# Altium footprint library Texas Instruments Footprints.PcbLib: 429 footprints (part 21 of 32)
Each footprint in its own frame and in the unit in brackets; x right, y up, seen from the top. Pads: shape width x height; smd on the part's side, far side on the other; paste and mask are expansions set on the pad; w line width, h text height; cw(c..) or ccw(c..) is an arc to the next point about the centre after c.
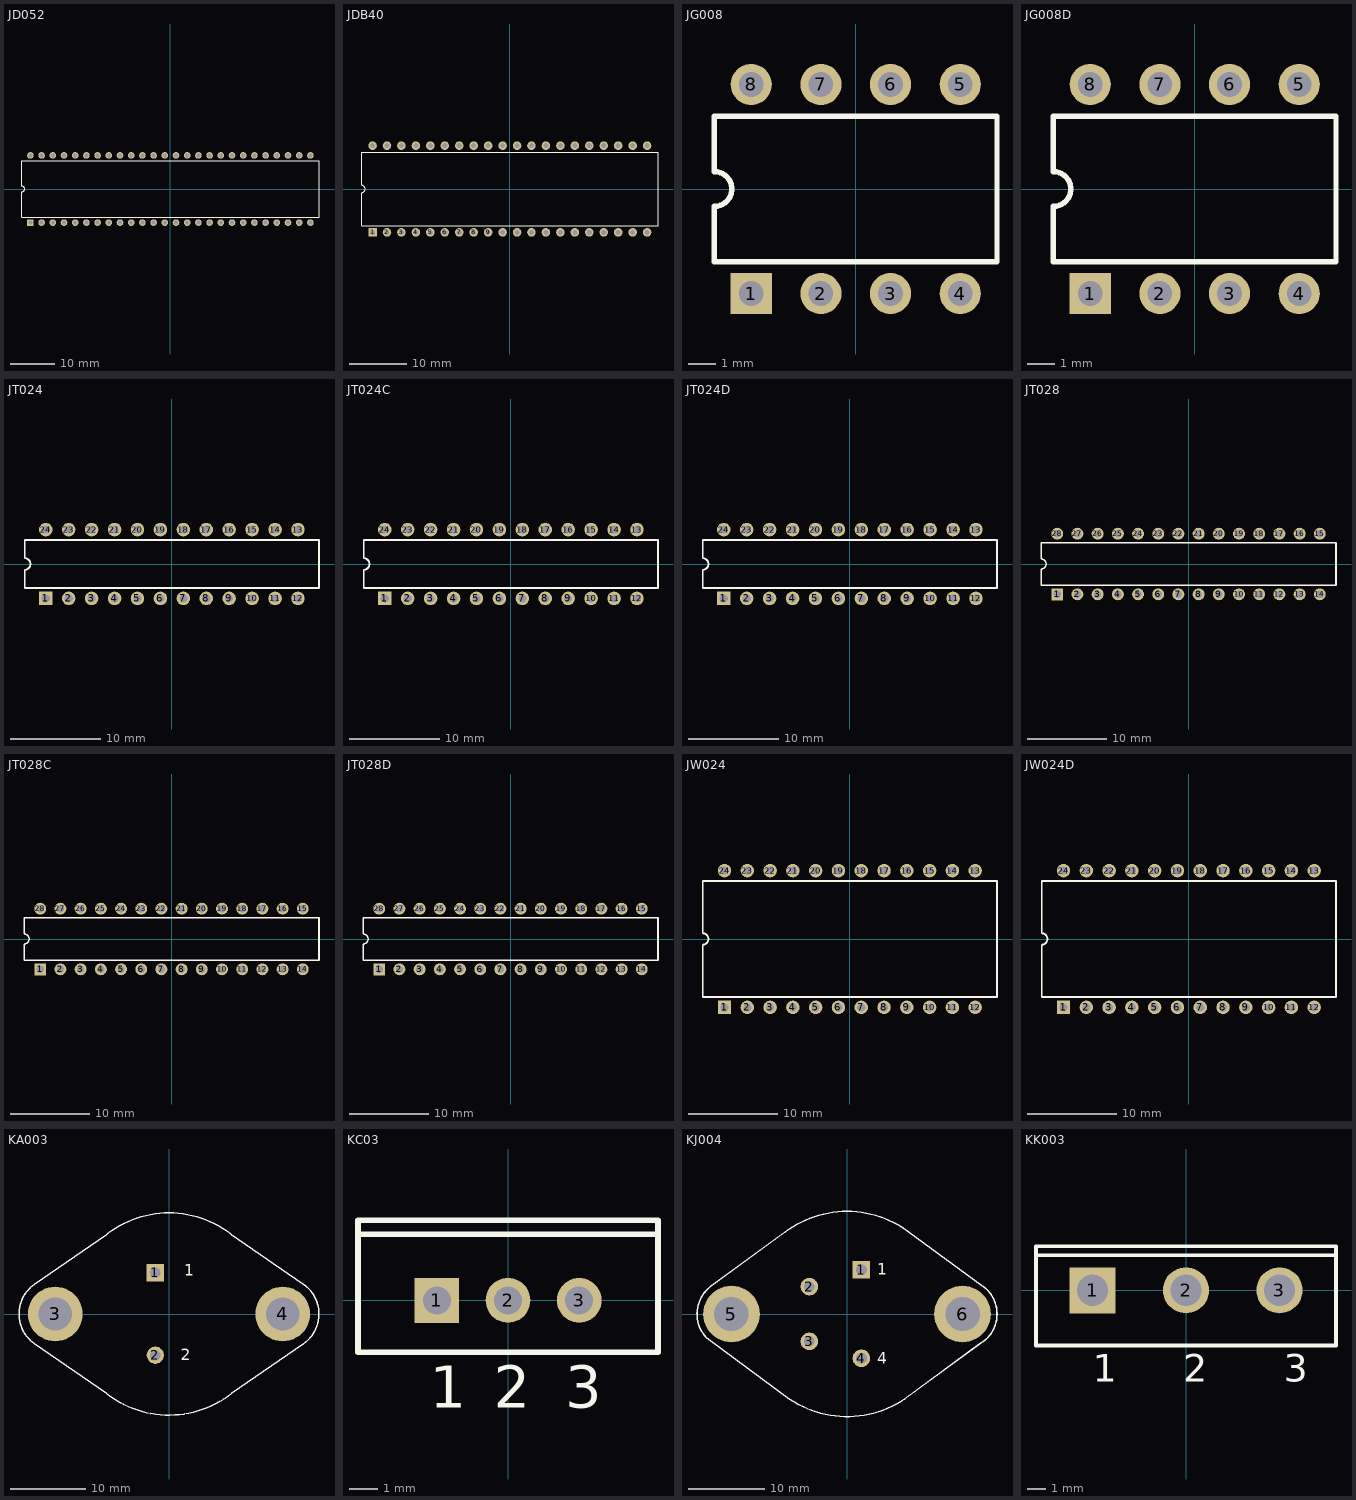
[diagram p20: the footprints below, top view; thin cyan lines are the x and y axes]

## JD052 [mm] "DIP; 52 Leads; Row Spacing 15.24 mm; Pitch 2.54 mm"
height 4.45
pads (52):
  rect 1.5x1.5 hole 0.9: 1(-31.75,-7.62)
  round 1.5 hole 0.9: 2(-29.21,-7.62) 3(-26.67,-7.62) 4(-24.13,-7.62) 5(-21.59,-7.62) 6(-19.05,-7.62) 7(-16.51,-7.62) 8(-13.97,-7.62) 9(-11.43,-7.62) 10(-8.89,-7.62) 11(-6.35,-7.62) 12(-3.81,-7.62) 13(-1.27,-7.62) 14(1.27,-7.62) 15(3.81,-7.62) 16(6.35,-7.62) 17(8.89,-7.62) 18(11.43,-7.62) 19(13.97,-7.62) 20(16.51,-7.62) 21(19.05,-7.62) 22(21.59,-7.62) 23(24.13,-7.62) 24(26.67,-7.62) 25(29.21,-7.62) 26(31.75,-7.62) 27(31.75,7.62) 28(29.21,7.62) 29(26.67,7.62) 30(24.13,7.62) 31(21.59,7.62) 32(19.05,7.62) 33(16.51,7.62) 34(13.97,7.62) 35(11.43,7.62) 36(8.89,7.62) 37(6.35,7.62) 38(3.81,7.62) 39(1.27,7.62) 40(-1.27,7.62) 41(-3.81,7.62) 42(-6.35,7.62) 43(-8.89,7.62) 44(-11.43,7.62) 45(-13.97,7.62) 46(-16.51,7.62) 47(-19.05,7.62) 48(-21.59,7.62) 49(-24.13,7.62) 50(-26.67,7.62) 51(-29.21,7.62) 52(-31.75,7.62)
Top Overlay:
  lines w0.2: -33.7,-6.45 -33.7,-0.635 ccw(c-33.7,0) -33.7,0.635 -33.7,6.45 33.7,6.45 33.7,-6.45 -33.7,-6.45

## JDB40 [mm] "DIP; 40 Leads; Row Spacing 15.24 mm; Pitch 2.54 mm"
height 4.7
pads (40):
  rect 1.5x1.5 hole 0.9: 1(-24.13,-7.62)
  round 1.5 hole 0.9: 2(-21.59,-7.62) 3(-19.05,-7.62) 4(-16.51,-7.62) 5(-13.97,-7.62) 6(-11.43,-7.62) 7(-8.89,-7.62) 8(-6.35,-7.62) 9(-3.81,-7.62) 10(-1.27,-7.62) 11(1.27,-7.62) 12(3.81,-7.62) 13(6.35,-7.62) 14(8.89,-7.62) 15(11.43,-7.62) 16(13.97,-7.62) 17(16.51,-7.62) 18(19.05,-7.62) 19(21.59,-7.62) 20(24.13,-7.62) 21(24.13,7.62) 22(21.59,7.62) 23(19.05,7.62) 24(16.51,7.62) 25(13.97,7.62) 26(11.43,7.62) 27(8.89,7.62) 28(6.35,7.62) 29(3.81,7.62) 30(1.27,7.62) 31(-1.27,7.62) 32(-3.81,7.62) 33(-6.35,7.62) 34(-8.89,7.62) 35(-11.43,7.62) 36(-13.97,7.62) 37(-16.51,7.62) 38(-19.05,7.62) 39(-21.59,7.62) 40(-24.13,7.62)
Top Overlay:
  lines w0.2: -26.05,-6.45 -26.05,-0.635 ccw(c-26.05,0) -26.05,0.635 -26.05,6.45 26.05,6.45 26.05,-6.45 -26.05,-6.45

## JG008 [mm] "DIP; 8 Leads; Row Spacing 7.62 mm; Pitch 2.54 mm"
height 5.08
pads (8):
  rect 1.5x1.5 hole 0.9: 1(-3.81,-3.81)
  round 1.5 hole 0.9: 2(-1.27,-3.81) 3(1.27,-3.81) 4(3.81,-3.81) 5(3.81,3.81) 6(1.27,3.81) 7(-1.27,3.81) 8(-3.81,3.81)
Top Overlay:
  lines w0.2: -5.15,-2.65 -5.15,-0.635 ccw(c-5.15,0) -5.15,0.635 -5.15,2.65 5.15,2.65 5.15,-2.65 -5.15,-2.65

## JG008D [mm] "DIP; 8 Leads; Row Spacing 7.62 mm; Pitch 2.54 mm"
height 5.08
pads (8):
  rect 1.5x1.5 hole 0.9: 1(-3.81,-3.81)
  round 1.5 hole 0.9: 2(-1.27,-3.81) 3(1.27,-3.81) 4(3.81,-3.81) 5(3.81,3.81) 6(1.27,3.81) 7(-1.27,3.81) 8(-3.81,3.81)
Top Overlay:
  lines w0.2: -5.15,-2.65 -5.15,-0.635 ccw(c-5.15,0) -5.15,0.635 -5.15,2.65 5.15,2.65 5.15,-2.65 -5.15,-2.65

## JT024 [mm] "DIP; 24 Leads; Row Spacing 7.62 mm; Pitch 2.54 mm"
height 5.08
pads (24):
  rect 1.5x1.5 hole 0.9: 1(-13.97,-3.81)
  round 1.5 hole 0.9: 2(-11.43,-3.81) 3(-8.89,-3.81) 4(-6.35,-3.81) 5(-3.81,-3.81) 6(-1.27,-3.81) 7(1.27,-3.81) 8(3.81,-3.81) 9(6.35,-3.81) 10(8.89,-3.81) 11(11.43,-3.81) 12(13.97,-3.81) 13(13.97,3.81) 14(11.43,3.81) 15(8.89,3.81) 16(6.35,3.81) 17(3.81,3.81) 18(1.27,3.81) 19(-1.27,3.81) 20(-3.81,3.81) 21(-6.35,3.81) 22(-8.89,3.81) 23(-11.43,3.81) 24(-13.97,3.81)
Top Overlay:
  lines w0.2: -16.3,-2.65 16.3,-2.65 16.3,2.65 -16.3,2.65 -16.3,0.635 cw(c-16.3,0) -16.3,-0.635 -16.3,-2.65

## JT024C [mm] "DIP; 24 Leads; Row Spacing 7.62 mm; Pitch 2.54 mm"
height 5.08
pads (24):
  rect 1.5x1.5 hole 0.9: 1(-13.97,-3.81)
  round 1.5 hole 0.9: 2(-11.43,-3.81) 3(-8.89,-3.81) 4(-6.35,-3.81) 5(-3.81,-3.81) 6(-1.27,-3.81) 7(1.27,-3.81) 8(3.81,-3.81) 9(6.35,-3.81) 10(8.89,-3.81) 11(11.43,-3.81) 12(13.97,-3.81) 13(13.97,3.81) 14(11.43,3.81) 15(8.89,3.81) 16(6.35,3.81) 17(3.81,3.81) 18(1.27,3.81) 19(-1.27,3.81) 20(-3.81,3.81) 21(-6.35,3.81) 22(-8.89,3.81) 23(-11.43,3.81) 24(-13.97,3.81)
Top Overlay:
  lines w0.2: -16.3,-2.65 16.3,-2.65 16.3,2.65 -16.3,2.65 -16.3,0.635 cw(c-16.3,0) -16.3,-0.635 -16.3,-2.65

## JT024D [mm] "DIP; 24 Leads; Row Spacing 7.62 mm; Pitch 2.54 mm"
height 5.08
pads (24):
  rect 1.5x1.5 hole 0.9: 1(-13.97,-3.81)
  round 1.5 hole 0.9: 2(-11.43,-3.81) 3(-8.89,-3.81) 4(-6.35,-3.81) 5(-3.81,-3.81) 6(-1.27,-3.81) 7(1.27,-3.81) 8(3.81,-3.81) 9(6.35,-3.81) 10(8.89,-3.81) 11(11.43,-3.81) 12(13.97,-3.81) 13(13.97,3.81) 14(11.43,3.81) 15(8.89,3.81) 16(6.35,3.81) 17(3.81,3.81) 18(1.27,3.81) 19(-1.27,3.81) 20(-3.81,3.81) 21(-6.35,3.81) 22(-8.89,3.81) 23(-11.43,3.81) 24(-13.97,3.81)
Top Overlay:
  lines w0.2: -16.3,-2.65 16.3,-2.65 16.3,2.65 -16.3,2.65 -16.3,0.635 cw(c-16.3,0) -16.3,-0.635 -16.3,-2.65

## JT028 [mm] "DIP; 28 Leads; Row Spacing 7.62 mm; Pitch 2.54 mm"
height 5.08
pads (28):
  rect 1.5x1.5 hole 0.9: 1(-16.51,-3.81)
  round 1.5 hole 0.9: 2(-13.97,-3.81) 3(-11.43,-3.81) 4(-8.89,-3.81) 5(-6.35,-3.81) 6(-3.81,-3.81) 7(-1.27,-3.81) 8(1.27,-3.81) 9(3.81,-3.81) 10(6.35,-3.81) 11(8.89,-3.81) 12(11.43,-3.81) 13(13.97,-3.81) 14(16.51,-3.81) 15(16.51,3.81) 16(13.97,3.81) 17(11.43,3.81) 18(8.89,3.81) 19(6.35,3.81) 20(3.81,3.81) 21(1.27,3.81) 22(-1.27,3.81) 23(-3.81,3.81) 24(-6.35,3.81) 25(-8.89,3.81) 26(-11.43,3.81) 27(-13.97,3.81) 28(-16.51,3.81)
Top Overlay:
  lines w0.2: -18.55,-2.65 18.55,-2.65 18.55,2.65 -18.55,2.65 -18.55,0.635 cw(c-18.55,0) -18.55,-0.635 -18.55,-2.65

## JT028C [mm] "DIP; 28 Leads; Row Spacing 7.62 mm; Pitch 2.54 mm"
height 5.08
pads (28):
  rect 1.5x1.5 hole 0.9: 1(-16.51,-3.81)
  round 1.5 hole 0.9: 2(-13.97,-3.81) 3(-11.43,-3.81) 4(-8.89,-3.81) 5(-6.35,-3.81) 6(-3.81,-3.81) 7(-1.27,-3.81) 8(1.27,-3.81) 9(3.81,-3.81) 10(6.35,-3.81) 11(8.89,-3.81) 12(11.43,-3.81) 13(13.97,-3.81) 14(16.51,-3.81) 15(16.51,3.81) 16(13.97,3.81) 17(11.43,3.81) 18(8.89,3.81) 19(6.35,3.81) 20(3.81,3.81) 21(1.27,3.81) 22(-1.27,3.81) 23(-3.81,3.81) 24(-6.35,3.81) 25(-8.89,3.81) 26(-11.43,3.81) 27(-13.97,3.81) 28(-16.51,3.81)
Top Overlay:
  lines w0.2: -18.55,-2.65 18.55,-2.65 18.55,2.65 -18.55,2.65 -18.55,0.635 cw(c-18.55,0) -18.55,-0.635 -18.55,-2.65

## JT028D [mm] "DIP; 28 Leads; Row Spacing 7.62 mm; Pitch 2.54 mm"
height 5.08
pads (28):
  rect 1.5x1.5 hole 0.9: 1(-16.51,-3.81)
  round 1.5 hole 0.9: 2(-13.97,-3.81) 3(-11.43,-3.81) 4(-8.89,-3.81) 5(-6.35,-3.81) 6(-3.81,-3.81) 7(-1.27,-3.81) 8(1.27,-3.81) 9(3.81,-3.81) 10(6.35,-3.81) 11(8.89,-3.81) 12(11.43,-3.81) 13(13.97,-3.81) 14(16.51,-3.81) 15(16.51,3.81) 16(13.97,3.81) 17(11.43,3.81) 18(8.89,3.81) 19(6.35,3.81) 20(3.81,3.81) 21(1.27,3.81) 22(-1.27,3.81) 23(-3.81,3.81) 24(-6.35,3.81) 25(-8.89,3.81) 26(-11.43,3.81) 27(-13.97,3.81) 28(-16.51,3.81)
Top Overlay:
  lines w0.2: -18.55,-2.65 18.55,-2.65 18.55,2.65 -18.55,2.65 -18.55,0.635 cw(c-18.55,0) -18.55,-0.635 -18.55,-2.65

## JW024 [mm] "DIP; 24 Leads; Row Spacing 15.24 mm; Pitch 2.54 mm"
height 5.7
pads (24):
  rect 1.5x1.5 hole 0.9: 1(-13.97,-7.62)
  round 1.5 hole 0.9: 2(-11.43,-7.62) 3(-8.89,-7.62) 4(-6.35,-7.62) 5(-3.81,-7.62) 6(-1.27,-7.62) 7(1.27,-7.62) 8(3.81,-7.62) 9(6.35,-7.62) 10(8.89,-7.62) 11(11.43,-7.62) 12(13.97,-7.62) 13(13.97,7.62) 14(11.43,7.62) 15(8.89,7.62) 16(6.35,7.62) 17(3.81,7.62) 18(1.27,7.62) 19(-1.27,7.62) 20(-3.81,7.62) 21(-6.35,7.62) 22(-8.89,7.62) 23(-11.43,7.62) 24(-13.97,7.62)
Top Overlay:
  lines w0.2: -16.4,-6.45 -16.4,-0.635 ccw(c-16.4,0) -16.4,0.635 -16.4,6.45 16.4,6.45 16.4,-6.45 -16.4,-6.45

## JW024D [mm] "DIP; 24 Leads; Row Spacing 15.24 mm; Pitch 2.54 mm"
height 5.7
pads (24):
  rect 1.5x1.5 hole 0.9: 1(-13.97,-7.62)
  round 1.5 hole 0.9: 2(-11.43,-7.62) 3(-8.89,-7.62) 4(-6.35,-7.62) 5(-3.81,-7.62) 6(-1.27,-7.62) 7(1.27,-7.62) 8(3.81,-7.62) 9(6.35,-7.62) 10(8.89,-7.62) 11(11.43,-7.62) 12(13.97,-7.62) 13(13.97,7.62) 14(11.43,7.62) 15(8.89,7.62) 16(6.35,7.62) 17(3.81,7.62) 18(1.27,7.62) 19(-1.27,7.62) 20(-3.81,7.62) 21(-6.35,7.62) 22(-8.89,7.62) 23(-11.43,7.62) 24(-13.97,7.62)
Top Overlay:
  lines w0.2: -16.4,-6.45 -16.4,-0.635 ccw(c-16.4,0) -16.4,0.635 -16.4,6.45 16.4,6.45 16.4,-6.45 -16.4,-6.45

## KA003 [mm] "Oval Flange Mount with (2) Offset Leads; Pin Spacing 10.92 mm; Lead Dia. 1.09 mm (max)"
height 11.43
pads (4):
  rect 2.3x2.3 hole 1.4: 1(-1.815,5.46)
  round 2.3 hole 1.4: 2(-1.815,-5.46)
  round 7.25 hole 4.4: 3(-15.075,0) 4(15.075,0)
Top Overlay:
  lines w0.2: -17.84,-3.93 -8.299,-10.521 ; -17.84,3.94 -8.299,10.521 ; -17.828,-3.932 cw(c-15.075,0) -17.828,3.932 ; -8.613,-10.265 ccw(c0,0) 8.298,-10.521 17.82,-3.94 ; -8.613,10.265 cw(c0,0) 8.613,10.265 ; 8.299,10.521 17.68,4.03 ; 17.689,4.026 cw(c15.075,0) 17.828,-3.932
  text "1" at 2.032,5.08 h1.5
  text "2" at 1.524,-6.096 h1.5

## KC03 [mm] "TO, Thru-Hole, Vertical, Heatsink Mounted; 3 In-Line Leads; Pitch 2.54 mm"
height 22.2
pads (3):
  rect 1.6x1.6 hole 1: 1(-2.54,0)
  round 1.6 hole 1: 2(0,0) 3(2.54,0)
Top Overlay:
  lines w0.2: -5.35,2.35 5.35,2.35 ; -5.35,-1.85 -5.35,2.85 5.35,2.85 5.35,-1.85 -5.35,-1.85
  text "3" at 2.04,-3.825 h1.5
  text "1" at -2.79,-3.825 h1.5
  text "2" at -0.5,-3.825 h1.5

## KJ004 [mm] "Oval Flange Mount; 4 Leads; Pin Circle Dia. 11.94 mm; Lead Dia. 1.09 mm (max)"
height 8.89
pads (6):
  rect 2.3x2.3 hole 1.4: 1(1.88,5.779)
  round 2.3 hole 1.4: 2(-4.915,3.571) 3(-4.915,-3.571) 4(1.88,-5.779)
  round 7.4 hole 4.5: 5(-15.075,0) 6(15.075,0)
Top Overlay:
  lines w0.2: 17.324,-3.9 7.511,-11.097 cw(c0,0) -7.481,-11.117 -18.322,-3.115 cw(c-15.075,0) -17.858,3.536 -8.078,10.691 cw(c0,0) 8.105,10.671 17.631,3.704 cw(c15.075,0) 17.325,-3.897
  text "4" at 3.93,-6.51 h1.5
  text "1" at 3.93,5.1 h1.5

## KK003 [mm] "SIP with Mounting Hole; 3 Leads; Body 22 x 16 x 5 mm (typ); Pitch 5.08 mm"
height 28.8
pads (3):
  rect 2.5x2.5 hole 1.7: 1(-5.08,0)
  round 2.5 hole 1.7: 2(0,0) 3(5.08,0)
Top Overlay:
  lines w0.2: -8.15,1.9 8.15,1.9 ; -8.15,-3 -8.15,2.4 8.15,2.4 8.15,-3 -8.15,-3
  text "3" at 5.312,-4.975 h1.5
  text "2" at -0.138,-4.975 h1.5
  text "1" at -5.08,-4.975 h1.5